# Altium schematic symbol library SMD0805B050TF.SCHLIB: 1 symbol
Pins are listed as number, name and electrical type; pins without a type are passive.

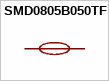
[diagram p0: symbol SMD0805B050TF]

## SMD0805B050TF
designator U??  (value not drawn)
Manufacturer: Brightking(君耀电子); Add into BOM: yes; Operating Voltage (Max): 6V; Current Rating (Max): 100A; Hold Current: 500mA; Trip Current: 1A; Resistance - Initial (Ri) (Min): 150mΩ; Maximum Time to Trip: 100ms; Symbol: SMD0805B050TF; Device: SMD0805B050TF; LCSC Part Name: 6V 500mA 0805自恢复; Supplier Part: C269104; Manufacturer Part: SMD0805B050TF; Supplier Footprint: 0805; JLCPCB Part Class: Extended Part; Datasheet: https://atta.szlcsc.com/upload/public/pdf/source/20180913/C269107_1BF28CF6F4C5BFD5B8CD673BC8D2B923.pdf; Supplier: LCSC; Convert to PCB: yes; Operating Temperature: -40℃~+85℃；-40℃~+85℃；-40℃~+85℃
footprint F0805
pins: 1, 2